# Altium footprint library MYLIB.PcbLib: 43 footprints (part 1 of 3)
Each footprint in its own frame and in the unit in brackets; x right, y up, seen from the top. Pads: shape width x height; smd on the part's side, far side on the other; paste and mask are expansions set on the pad; w line width, h text height; cw(c..) or ccw(c..) is an arc to the next point about the centre after c.
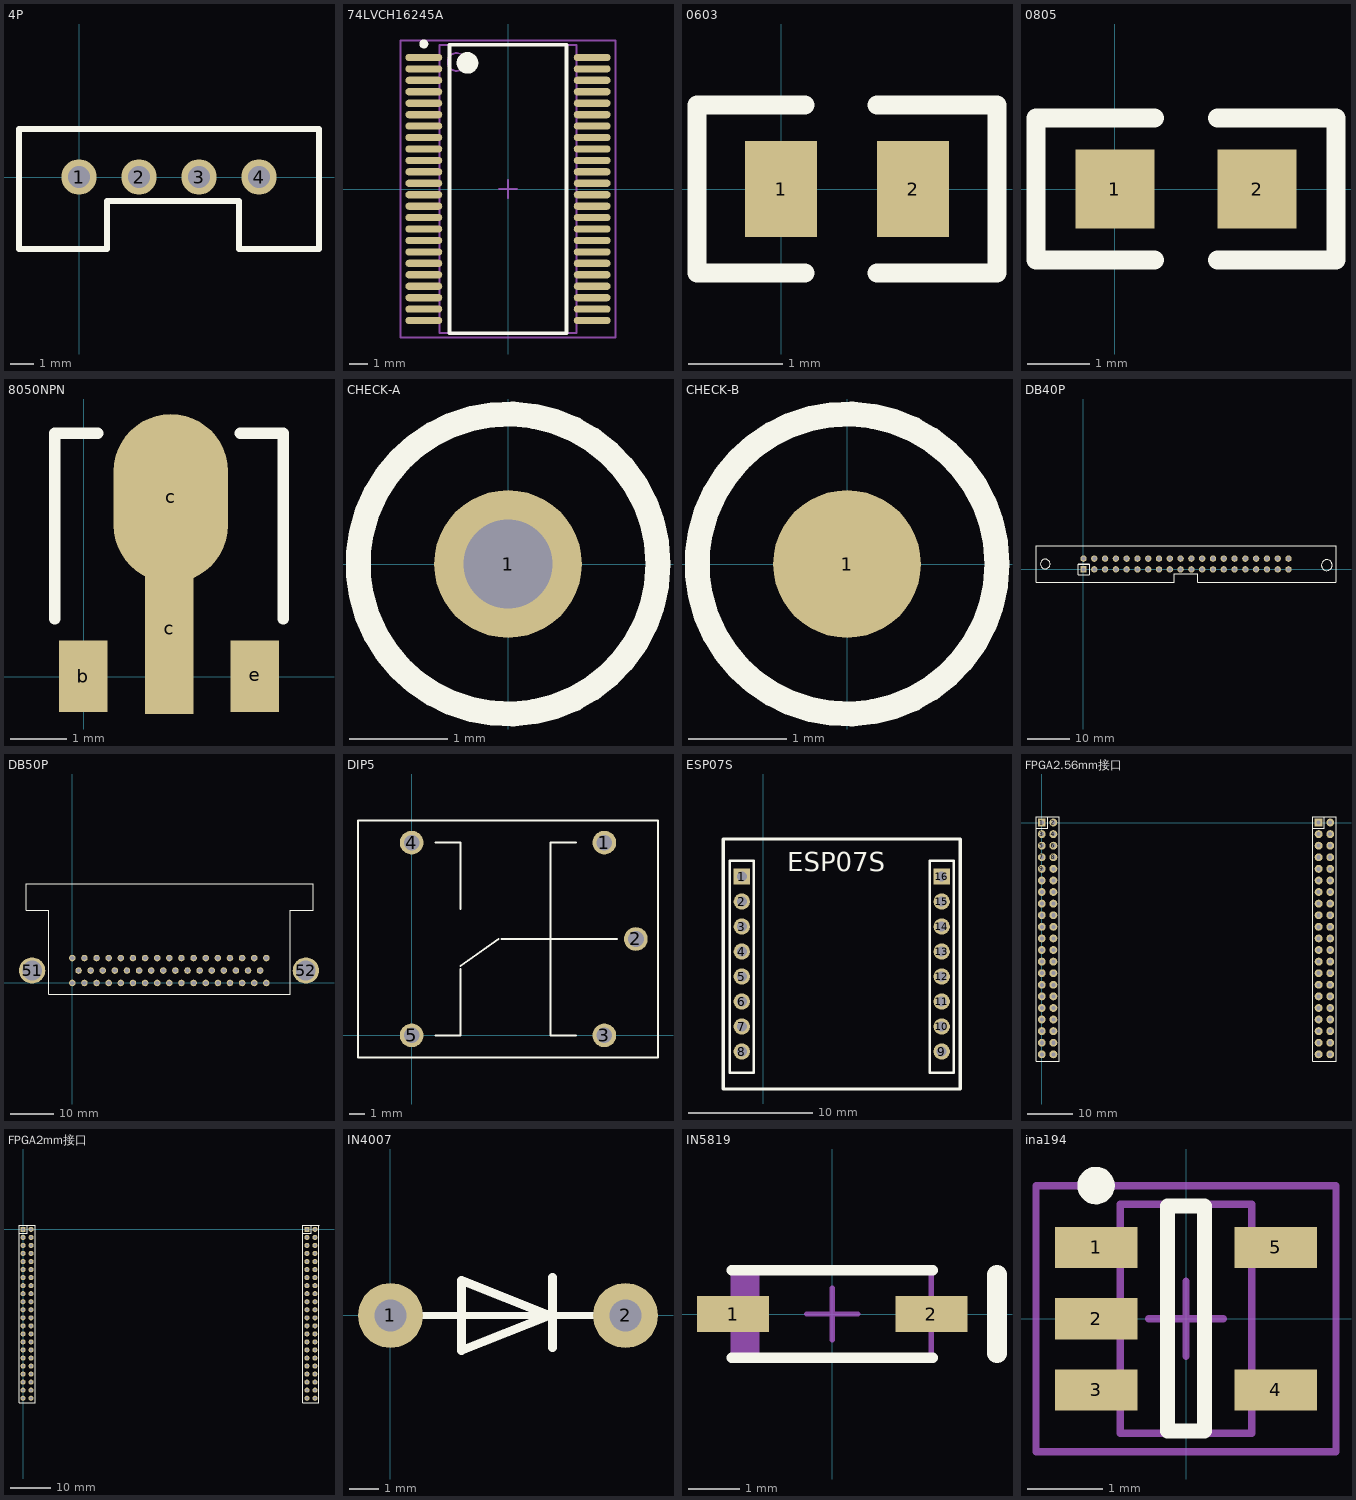
[diagram p0: the footprints below, top view; thin cyan lines are the x and y axes]

## 4P [mm]
pads (4):
  round 1.5 hole 0.95: 1(0,0) 2(2.54,0) 3(5.08,0) 4(7.62,0)
Top Overlay:
  lines w0.254: -2.54,-3.048 1.176,-3.048 1.176,-1.016 4.224,-1.016 6.764,-1.016 6.764,-3.048 10.16,-3.048 10.16,2.032 -2.54,2.032 -2.54,-3.048

## 74LVCH16245A [mm] "SOP, 48-Leads, Body 16.0x7.6mm (max), Pitch 0.63mm, IPC Medium Density"
height 2.79
pads (48):
  oval 2.05x0.4 smd: 1(-4.675,7.302) 2(-4.675,6.667) 3(-4.675,6.032) 4(-4.675,5.397) 5(-4.675,4.763) 6(-4.675,4.127) 7(-4.675,3.492) 8(-4.675,2.857) 9(-4.675,2.222) 10(-4.675,1.587) 11(-4.675,0.953) 12(-4.675,0.318) 13(-4.675,-0.318) 14(-4.675,-0.953) 15(-4.675,-1.587) 16(-4.675,-2.222) 17(-4.675,-2.857) 18(-4.675,-3.492) 19(-4.675,-4.127) 20(-4.675,-4.763) 21(-4.675,-5.397) 22(-4.675,-6.032) 23(-4.675,-6.667) 24(-4.675,-7.302) 25(4.675,-7.302) 26(4.675,-6.667) 27(4.675,-6.032) 28(4.675,-5.397) 29(4.675,-4.763) 30(4.675,-4.127) 31(4.675,-3.492) 32(4.675,-2.857) 33(4.675,-2.222) 34(4.675,-1.587) 35(4.675,-0.953) 36(4.675,-0.318) 37(4.675,0.318) 38(4.675,0.953) 39(4.675,1.587) 40(4.675,2.222) 41(4.675,2.857) 42(4.675,3.492) 43(4.675,4.127) 44(4.675,4.763) 45(4.675,5.397) 46(4.675,6.032) 47(4.675,6.667) 48(4.675,7.302)
Top Overlay:
  circle w0.25: c-4.675,8.053 r0.125
  circle w0.6: c-2.25,7 r0.3
  lines w0.2: -3.25,-8 -3.25,8 3.25,8 3.25,-8 -3.25,-8
Mechanical 13:
  circle w0.1: c-2.845,7.05 r0.5
  lines w0.1: -3.795,-8 -3.795,8 3.795,8 3.795,-8 -3.795,-8
Mechanical 15:
  lines w0.1: -0.5,0 0.5,0 ; 0,-0.5 0,0.5 ; -5.975,-8.25 -5.975,8.25 5.975,8.25 5.975,-8.25 -5.975,-8.25
3D body: height 2.79, standoff 0.1, extent -3.795,-8 3.795,8

## 0603 [mil]
pads (2):
  rect 30x40 smd: 1(0,0) 2(55,0)
Top Overlay:
  lines w8: 10,-35 -35,-35 -35,35 10,35 ; 40,-35 90,-35 90,35 40,35

## 0805 [mil]
pads (2):
  rect 50x50 smd: 1(0,0) 2(90,0)
Top Overlay:
  lines w12: 25,-45 -50,-45 -50,45 25,45 ; 65,-45 140,-45 140,45 65,45

## 8050NPN [mil] "SOT-89("
pads (4):
  rect 34x50 smd: b(-0.26,0.47) e(119.74,0.47)
  rect 34x118.11 smd: c(60,33)
  oval 80x118.11 smd: c(61,125)
Top Overlay:
  lines w8: -20.26,40.47 -20.26,170.47 9.74,170.47 ; 109.74,170.47 139.74,170.47 139.74,40.47

## CHECK-A [mm] "Connector; Plug"
height 1.45
pads (1):
  round 1.5 hole 0.9: 1(0,0)
Top Overlay:
  circle w0.254: c0,0 r1.524

## CHECK-B [mm] "Connector; Plug"
height 1.45
pads (1):
  round 1.5 smd: 1(0,0)
Top Overlay:
  circle w0.254: c0,0 r1.524

## DB40P [mm]
pads (40):
  rect 1.5x1.5 hole 0.95: 1(0,0)
  round 1.5 hole 0.95: 2(0,2.54) 3(2.54,0) 4(2.54,2.54) 5(5.08,0) 6(5.08,2.54) 7(7.62,0) 8(7.62,2.54) 9(10.16,0) 10(10.16,2.54) 11(12.7,0) 12(12.7,2.54) 13(15.24,0) 14(15.24,2.54) 15(17.78,0) 16(17.78,2.54) 17(20.32,0) 18(20.32,2.54) 19(22.86,0) 20(22.86,2.54) 21(25.4,0) 22(25.4,2.54) 23(27.94,0) 24(27.94,2.54) 25(30.48,0) 26(30.48,2.54) 27(33.02,0) 28(33.02,2.54) 29(35.56,0) 30(35.56,2.54) 31(38.1,0) 32(38.1,2.54) 33(40.64,0) 34(40.64,2.54) 35(43.18,0) 36(43.18,2.54) 37(45.72,0) 38(45.72,2.54) 39(48.26,0) 40(48.26,2.54)
Top Overlay:
  circle w0.254: c57.26,0.992 r1.27
  circle w0.254: c-9,1.27 r1.136
  lines w0.254: -5.08,5.588 53.34,5.588 ; -1.194,1.245 -1.194,-1.295 1.346,-1.295 1.346,1.245 ; 0,5.588 -11.176,5.588 -11.176,-3.048 0,-3.048 21.336,-3.048 21.336,-1.016 24.384,-1.016 26.924,-1.016 26.924,-3.048 49.276,-3.048 ; 48.26,-3.048 59.436,-3.048 59.436,5.588 48.26,5.588
  lines w0.305: -1.194,1.245 1.346,1.245

## DB50P [mm]
pads (52):
  round 1.5 hole 1: 1(0,0) 2(2.769,0) 3(5.537,0) 4(8.306,0) 5(11.074,0) 6(13.843,0) 7(16.612,0) 8(19.38,0) 9(22.149,0) 10(24.917,0) 11(27.686,0) 12(30.455,0) 13(33.249,0) 14(35.992,0) 15(38.76,0) 16(41.529,0) 17(44.298,0) 18(1.422,2.845) 19(4.186,2.845) 20(6.949,2.845) 21(9.713,2.845) 22(12.476,2.845) 23(15.24,2.845) 24(18.004,2.845) 25(20.767,2.845) 26(23.531,2.845) 27(26.294,2.845) 28(29.058,2.845) 29(31.821,2.845) 30(34.585,2.845) 31(37.348,2.845) 32(40.112,2.845) 33(42.875,2.845) 34(0,5.69) 35(2.769,5.69) 36(5.537,5.69) 37(8.306,5.69) 38(11.074,5.69) 39(13.843,5.69) 40(16.612,5.69) 41(19.38,5.69) 42(22.149,5.69) 43(24.917,5.69) 44(27.686,5.69) 45(30.455,5.69) 46(33.223,5.69) 47(35.992,5.69) 48(38.76,5.69) 49(41.529,5.69) 50(44.298,5.69)
  round 6 hole 4.5: 51(-9.169,2.845) 52(53.315,2.845)
Top Overlay:
  lines w0.127: -10.541,16.62 -10.541,22.62 54.991,22.62 54.991,16.62 49.784,16.62 49.784,-2.54 -5.334,-2.54 -5.334,16.62 -10.533,16.62

## DIP5 [mm]
pads (5):
  round 1.5 hole 1: 1(12.2,12.2) 2(14.2,6.1) 3(12.2,0) 4(0,12.2) 5(0,0)
Top Overlay:
  lines w0.127: 1.5,0 3.1,0 3.1,4.2 ; 1.5,12.2 3.1,12.2 3.1,8 ; 3.1,4.4 5.5,6.1 ; 5.7,6.1 13,6.1 ; 10.4,0 8.8,0 8.8,12.2 10.4,12.2 ; -3.4,-1.4 15.6,-1.4 15.6,13.6 -3.4,13.6 -3.4,-1.4

## ESP07S [mm]
pads (16):
  rect 1.3x1.3 hole 0.8: 1(-1.725,24.719) 16(14.275,24.719)
  round 1.3 hole 0.8: 2(-1.725,22.719) 3(-1.725,20.719) 4(-1.725,18.719) 5(-1.725,16.719) 6(-1.725,14.719) 7(-1.725,12.719) 8(-1.725,10.719) 9(14.275,10.719) 10(14.275,12.719) 11(14.275,14.719) 12(14.275,16.719) 13(14.275,18.719) 14(14.275,20.719) 15(14.275,22.719)
Top Overlay:
  lines w0.2: -2.671,9.017 -0.771,9.017 -0.771,25.989 -2.671,25.989 -2.671,9.017 ; 13.333,9.017 15.233,9.017 15.233,25.989 13.333,25.989 13.333,9.017
  lines w0.254: -3.211,7.719 15.763,7.719 15.763,27.719 -3.211,27.719 -3.211,7.719
  text "ESP07S" at 1.905,25.146 h1.52

## FPGA2.56mm接口 [mil]
pads (84):
  rect 68x68 hole 35: 1(0,0) 43(2388,0)
  round 68 hole 35: 2(100,0) 3(0,-100) 4(100,-100) 5(0,-200) 6(100,-200) 7(0,-300) 8(100,-300) 9(0,-400) 10(100,-400) 11(0,-500) 12(100,-500) 13(0,-600) 14(100,-600) 15(0,-700) 16(100,-700) 17(0,-800) 18(100,-800) 19(0,-900) 20(100,-900) 21(0,-1000) 22(100,-1000) 23(0,-1100) 24(100,-1100) 25(0,-1200) 26(100,-1200) 27(0,-1300) 28(100,-1300) 29(0,-1400) 30(100,-1400) 31(0,-1500) 32(100,-1500) 33(0,-1600) 34(100,-1600) 35(0,-1700) 36(100,-1700) 37(0,-1800) 38(100,-1800) 39(0,-1900) 40(100,-1900) 41(0,-2000) 42(100,-2000) 44(2488,0) 45(2388,-100) 46(2488,-100) 47(2388,-200) 48(2488,-200) 49(2388,-300) 50(2488,-300) 51(2388,-400) 52(2488,-400) 53(2388,-500) 54(2488,-500) 55(2388,-600) 56(2488,-600) 57(2388,-700) 58(2488,-700) 59(2388,-800) 60(2488,-800) 61(2388,-900) 62(2488,-900) 63(2388,-1000) 64(2488,-1000) 65(2388,-1100) 66(2488,-1100) 67(2388,-1200) 68(2488,-1200) 69(2388,-1300) 70(2488,-1300) 71(2388,-1400) 72(2488,-1400) 73(2388,-1500) 74(2488,-1500) 75(2388,-1600) 76(2488,-1600) 77(2388,-1700) 78(2488,-1700) 79(2388,-1800) 80(2488,-1800) 81(2388,-1900) 82(2488,-1900) 83(2388,-2000) 84(2488,-2000)
Top Overlay:
  lines w5: -50,-863 -50,50 150,50 150,-863 ; -50,-850 -50,-1450 -50,-1863 -50,-2060 150,-2060 150,-1863 150,-1448 150,-850 ; -50,-50 50,-50 50,50 ; 2338,-863 2338,50 2538,50 2538,-863 ; 2338,-850 2338,-1450 2338,-1863 2338,-2060 2538,-2060 2538,-1863 2538,-1448 2538,-850 ; 2338,-50 2438,-50 2438,50

## FPGA2mm接口 [mil]
pads (88):
  rect 50x50 hole 28: 1(0,0) 45(2780,0)
  round 50 hole 28: 2(78.74,0) 3(0,-78.74) 4(78.74,-78.74) 5(0,-157.48) 6(78.74,-157.48) 7(0,-236.22) 8(78.74,-236.22) 9(0,-314.96) 10(78.74,-314.96) 11(0,-393.7) 12(78.74,-393.7) 13(0,-472.44) 14(78.74,-472.44) 15(0,-551.18) 16(78.74,-551.18) 17(0,-629.92) 18(78.74,-629.92) 19(0,-708.66) 20(78.74,-708.66) 21(0,-787.4) 22(78.74,-787.4) 23(0,-866.14) 24(78.74,-866.14) 25(0,-944.88) 26(78.74,-944.88) 27(0,-1023.62) 28(78.74,-1023.62) 29(0,-1102.36) 30(78.74,-1102.36) 31(0,-1181.1) 32(78.74,-1181.1) 33(0,-1259.84) 34(78.74,-1259.84) 35(0,-1338.58) 36(78.74,-1338.58) 37(0,-1417.32) 38(78.74,-1417.32) 39(0,-1496.06) 40(78.74,-1496.06) 41(0,-1574.8) 42(78.74,-1574.8) 43(0,-1653.54) 44(78.74,-1653.54) 46(2858.74,0) 47(2780,-78.74) 48(2858.74,-78.74) 49(2780,-157.48) 50(2858.74,-157.48) 51(2780,-236.22) 52(2858.74,-236.22) 53(2780,-314.96) 54(2858.74,-314.96) 55(2780,-393.7) 56(2858.74,-393.7) 57(2780,-472.44) 58(2858.74,-472.44) 59(2780,-551.18) 60(2858.74,-551.18) 61(2780,-629.92) 62(2858.74,-629.92) 63(2780,-708.66) 64(2858.74,-708.66) 65(2780,-787.4) 66(2858.74,-787.4) 67(2780,-866.14) 68(2858.74,-866.14) 69(2780,-944.88) 70(2858.74,-944.88) 71(2780,-1023.62) 72(2858.74,-1023.62) 73(2780,-1102.36) 74(2858.74,-1102.36) 75(2780,-1181.1) 76(2858.74,-1181.1) 77(2780,-1259.84) 78(2858.74,-1259.84) 79(2780,-1338.58) 80(2858.74,-1338.58) 81(2780,-1417.32) 82(2858.74,-1417.32) 83(2780,-1496.06) 84(2858.74,-1496.06) 85(2780,-1574.8) 86(2858.74,-1574.8) 87(2780,-1653.54) 88(2858.74,-1653.54)
Top Overlay:
  lines w8: -39.37,-40 40,-40 40,39.37 ; 118,39 118,-1697 -39.37,-1697 -39.37,39.37 118.11,39.37 ; 2740.63,-40 2820,-40 2820,39.37 ; 2898,39 2898,-1697 2740.63,-1697 2740.63,39.37 2898.11,39.37

## IN4007 [mil]
pads (2):
  round 87 hole 43.31: 1(0,0) 2(314.96,0)
Top Overlay:
  lines w10: 0,0 300,0
  lines w12: 217,-43 217,51 ; 95,-47 213,0 95,47 95,-47

## IN5819 [mm] "SBD"
pads (2):
  rect 1.4x0.7 smd: 1(-1.925,0) 2(1.925,0)
Top Overlay:
  lines w0.2: -1.95,-0.85 1.95,-0.85 ; -1.95,0.85 1.95,0.85
  lines w0.381: 3.2,-0.762 3.2,0.762
Mechanical 13:
  rectangle: -1.925,-0.85 -1.407,0.85
  lines w0.1: -1.925,-0.85 -1.925,0.85 1.925,0.85 1.925,-0.85 -1.925,-0.85
Mechanical 15:
  lines w0.1: -0.5,0 0.5,0 ; 0,-0.5 0,0.5
3D body: height 1.1, standoff 0, extent -1.925,-0.85 1.925,0.85

## ina194 [mm] "SOT23, 5-Leads, Body 3.0x3.0mm (max), Pitch 0.95mm, IPC Medium Density"
height 1.45
pads (5):
  rect 1.1x0.55 smd: 1(-1.2,0.95) 2(-1.2,0) 3(-1.2,-0.95) 4(1.2,-0.95) 5(1.2,0.95)
Top Overlay:
  circle w0.25: c-1.2,1.775 r0.125
  lines w0.2: -0.25,-1.5 0.25,-1.5 0.25,1.5 -0.25,1.5 -0.25,-1.5
Mechanical 13:
  lines w0.1: -0.875,-1.525 -0.875,1.525 0.875,1.525 0.875,-1.525 -0.875,-1.525
Mechanical 15:
  lines w0.1: -0.5,0 0.5,0 ; 0,-0.5 0,0.5 ; -2,-1.775 -2,1.775 2,1.775 2,-1.775 -2,-1.775
3D body: height 1.45, standoff 0.15, extent -0.875,-1.525 0.875,1.525